# Altium schematic symbol library 10TPB33M.SchLib: 1 symbol
Pins are listed as number, name and electrical type; pins without a type are passive.

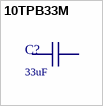
[diagram p0: symbol 10TPB33M]

## 10TPB33M
designator C?  verdi: 33uF  (hidden comment: 10TPB33M)
Manufacturer: Panasonic; Farnell: 2354816; MPN: 10TPB33M
footprint CAPMP3528X20N (Molded Capacitor, 2-Leads, Body 3,50x2,80mm, IPC Medium Density)
pins: 1, 2